# Altium schematic symbol library microUSB.SchLib: 1 symbol
Pins are listed as number, name and electrical type; pins without a type are passive.

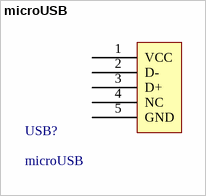
[diagram p0: symbol microUSB]

## microUSB
designator USB?
USB接头
footprint microUSB (USB)
pins: 1 VCC, 2 D-, 3 D+, 4 NC, 5 GND